# EAGLE library part PCA9544A (library signpost)
1-4 I2C/SMBUS Multiplexer with interrupt for power supply coulomb counters
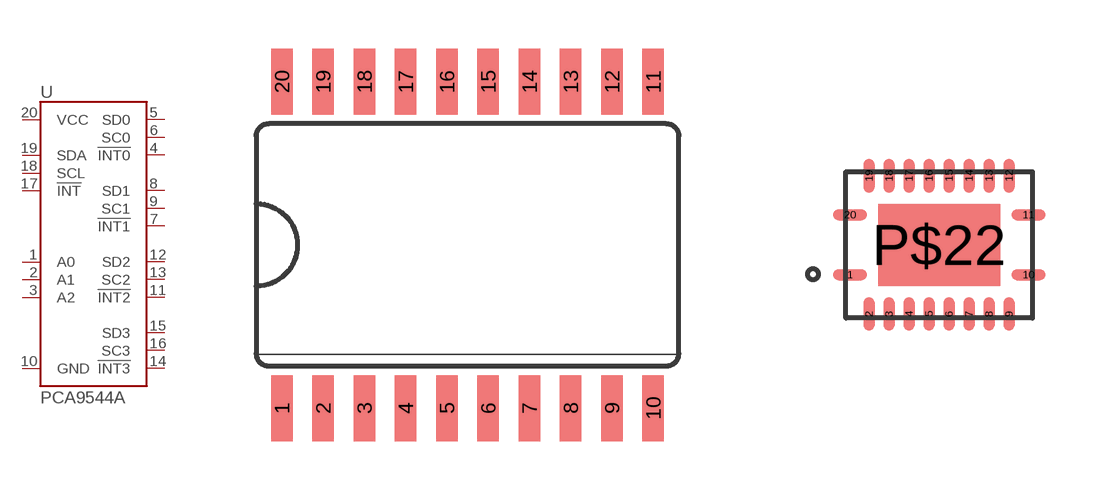
[diagram p19: symbol with the pads of SO20L; footprints SO20L, QFN-N20]

Designator prefix U

## PCA9544A  [SO20L]
1  A0
2  A1
3  A2
4  !INT0
5  SD0
6  SC0
7  !INT1
8  SD1
9  SC1
10  GND
11  !INT2
12  SD2
13  SC2
14  !INT3
15  SD3
16  SC3
17  !INT
18  SCL
19  SDA
20  VCC

## PCA9544AQFN-N20 (DIGIKEY: 296-20960-1-ND; MANUFACTURER: TI; MPN: PCA9544ARGYR)  [QFN-N20]
Pads as for SO20L

## Footprint SO20L (pad centres in mm)
Small Outline Package
smd 0.66 x 2.032: 1 -5.715,-5.029; 2 -4.445,-5.029; 3 -3.175,-5.029; 4 -1.905,-5.029; 5 -0.635,-5.029; 6 0.635,-5.029; 7 1.905,-5.029; 8 3.175,-5.029; 9 4.445,-5.029; 10 5.715,-5.029; 11 5.715,5.029; 12 4.445,5.029; 13 3.175,5.029; 14 1.905,5.029; 15 0.635,5.029; 16 -0.635,5.029; 17 -1.905,5.029; 18 -3.175,5.029; 19 -4.445,5.029; 20 -5.715,5.029

## Footprint QFN-N20 (pad centres in mm)
smd 0.85 x 0.28: 1 -2.23,-0.75; 10 2.23,-0.75; 11 2.23,0.75; 20 -2.23,0.75
smd 0.28 x 0.85: 2 -1.75,-1.73; 3 -1.25,-1.73; 4 -0.75,-1.73; 5 -0.25,-1.73; 6 0.25,-1.73; 7 0.75,-1.73; 8 1.25,-1.73; 9 1.75,-1.73; 12 1.75,1.73; 13 1.25,1.73; 14 0.75,1.73; 15 0.25,1.73; 16 -0.25,1.73; 17 -0.75,1.73; 18 -1.25,1.73; 19 -1.75,1.73
smd 3.05 x 2.05: P$22 0,0